# EAGLE library part 615016245421 (library WR-MJ)
WR-MJ Cat 3 Modular Jacks – THT Characteristics Shieldingless and Shielded with EMI-Spring option Optional LEDs in various sequences Vertical and Horizontal orientation Stacked and assembled configurations Tray Packaging Properties PoE++ Compatible up to 100W (IEEE 802.3bt) UL and cULus-Certified UL94-V0 insulator material Ethernet Category 3 – Category 5 under conditions Applications Networks Internet of Things mart Buildings <https://www.we-online.com/components/media/o863419v209%20multi-WR-MJTH-615002138421.jpg> Details see: www.we-online.com/en/components/products/WR_MJ_MODULAR_JACKS_THT <www.we-online.com/catalog/WR_MJ_MODULAR_JACKS_THT/?utm_source=eagle_model&utm_medium=description_link&utm_campaign=eisos_eagle> Updated by Ella Wu 2021-12-08 2022(C) Würth Elektronik
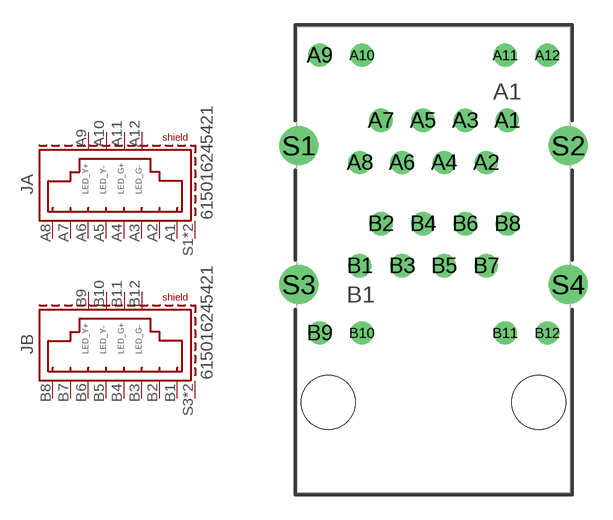
[diagram p17: symbol with the pads of 615016245421; footprint 615016245421]

Designator prefix J; gates A=8P8C_S_LEDYG B=8P8C_S_LEDYG

## 615016245421 (APPLICATION-SYSTEM: CAT 3; DATASHEET-URL: https://www.we-online.com/redexpert/spec/615016245421?ae; EMI: Yes; LED: yellow-green; MOUNT: THT; PART-NUMBER: 615016245421; SIZE: Horizontal; TAB: Up & Down; VALUE: 615016245421; XPXC: 8P8C)  [615016245421]
A1  A:1  pas
A2  A:2  pas
A3  A:3  pas
A4  A:4  pas
A5  A:5  pas
A6  A:6  pas
A7  A:7  pas
A8  A:8  pas
A9  A:Y+  pas
A10  A:Y-  pas
A11  A:G+  pas
A12  A:G-  pas
B1  B:1  pas
B2  B:2  pas
B3  B:3  pas
B4  B:4  pas
B5  B:5  pas
B6  B:6  pas
B7  B:7  pas
B8  B:8  pas
B9  B:Y+  pas
B10  B:Y-  pas
B11  B:G+  pas
B12  B:G-  pas
S1  A:SHIELD  pas
S2  A:SHIELD  pas
S3  B:SHIELD  pas
S4  B:SHIELD  pas

## Footprint 615016245421 (pad centres in mm)
WR-MJ Modular Jack Horizontal Shielded Dual Stacked w. LED and EMI Panel Finger 8P8C Tab Up&Down,16 Pins
drill 0.89: A1 4.445,8.405; A2 3.175,5.865; A3 1.905,8.405; A4 0.635,5.865; A5 -0.635,8.405; A6 -1.905,5.865; A7 -3.175,8.405; A8 -4.445,5.865; A9 -6.865,12.335; A10 -4.32,12.335; A11 4.32,12.335; A12 6.865,12.335; B1 -4.445,-0.365; B2 -3.175,2.175; B3 -1.905,-0.365; B4 -0.635,2.175; B5 0.635,-0.365; B6 1.905,2.175; B7 3.175,-0.365; B8 4.445,2.175; B9 -6.865,-4.425; B10 -4.32,-4.425; B11 4.32,-4.425; B12 6.865,-4.425
drill 1.57: S1 -8.12,6.875; S2 8.12,6.875; S3 -8.12,-1.505; S4 8.12,-1.505
hole 3.25 at -6.345,-8.615
hole 3.25 at 6.345,-8.615